# Altium schematic symbol library HCPL-181.Schlib: 1 symbol
Pins are listed as number, name and electrical type; pins without a type are passive.

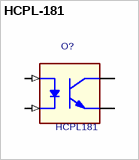
[diagram p0: symbol HCPL-181]

## HCPL-181
designator O?, comment HCPL181
Bipolar Optoisolator
pins: 1 ANODE (in), 2 CATHODE (in), 3 E (oe), 4 C (oc)